# Altium integrated library PJ-059BH.IntLib: 1 symbol
Pins are listed as number, name and electrical type; pins without a type are passive.

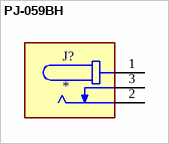
[diagram p0: symbol PJ-059BH]

## PJ-059BH
designator J?
MF: {'manufacturer': u'CUI Devices'}; MP: PJ-059BH; Package: None; Price: None; Value: *; Availability: Unavailable
footprint CUI_PJ-059BH
pins: 1, 2, 3